# Altium footprint library PCB - POWER INDUCTORS - WURTH WE-LQS 8065.PcbLib: 1 footprints
Each footprint in its own frame and in the unit in brackets; x right, y up, seen from the top. Pads: shape width x height; smd on the part's side, far side on the other; paste and mask are expansions set on the pad; w line width, h text height; cw(c..) or ccw(c..) is an arc to the next point about the centre after c.
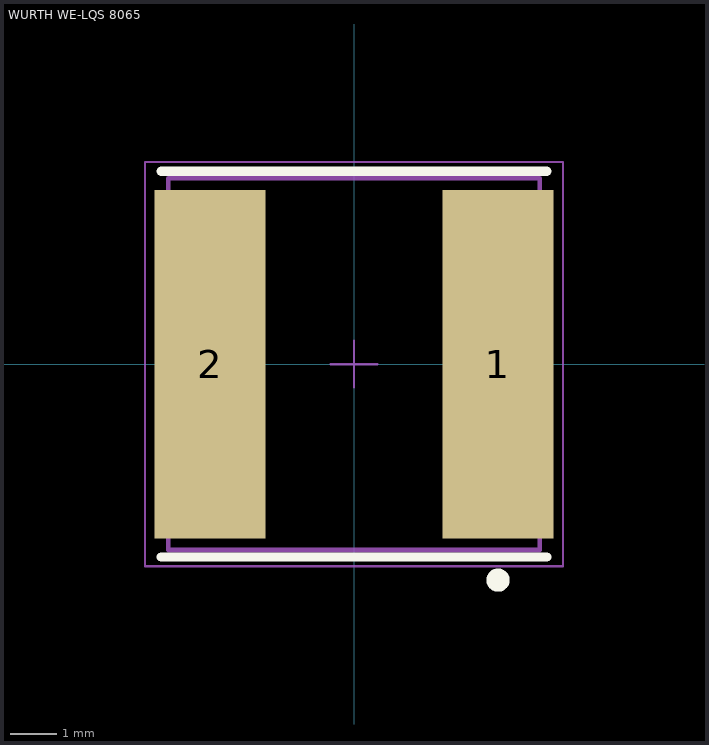
[diagram p0: the footprint, top view; thin cyan lines are the x and y axes]

## WURTH WE-LQS 8065 [mm] "SMD Power Inductor, 2-Leads, body 8.3x8.3mm"
height 6.5
pads (2):
  rect 2.4x7.5 smd: 1(3.1,0) 2(-3.1,0)
Top Overlay:
  circle w0.25: c3.1,-4.65 r0.125
  lines w0.2: -4.15,-4.15 4.15,-4.15 ; -4.15,4.15 4.15,4.15
Top Assembly:
  lines w0.05: -0.5,0 0.5,0 ; 0,-0.5 0,0.5
Top Component Outline:
  circle w0.1: c3,-3 r0.4
  circle w0.1: c3,-3 r0.4
  lines w0.1: -4,-4 4,-4 ; -4,-4 -4,4 ; -4,-4 4,-4 ; -4,-4 -4,4 ; -4,4 4,4 ; -4,4 4,4 ; 4,-4 4,4 ; 4,-4 4,4
Top Courtyard:
  lines w0.05: -4.5,-4.35 -4.5,4.35 4.5,4.35 4.5,-4.35 -4.5,-4.35
3D body "IndLQS_8065.stp": height 6.52, standoff 0.02, extent -4,-4 4,4